# Altium schematic symbol library Point, Marks.SchLib: 2 symbols
Pins are listed as number, name and electrical type; pins without a type are passive.

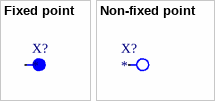
[diagram p0: symbols Fixed point to Non-fixed point]

## Fixed point
designator X?
Неразборная точка на плате
pins: 1

## Non-fixed point
designator X?
pins: 1